# Altium footprint library BORNES_3299.PcbLib: 1 footprints
Each footprint in its own frame and in the unit in brackets; x right, y up, seen from the top. Pads: shape width x height; smd on the part's side, far side on the other; paste and mask are expansions set on the pad; w line width, h text height; cw(c..) or ccw(c..) is an arc to the next point about the centre after c.
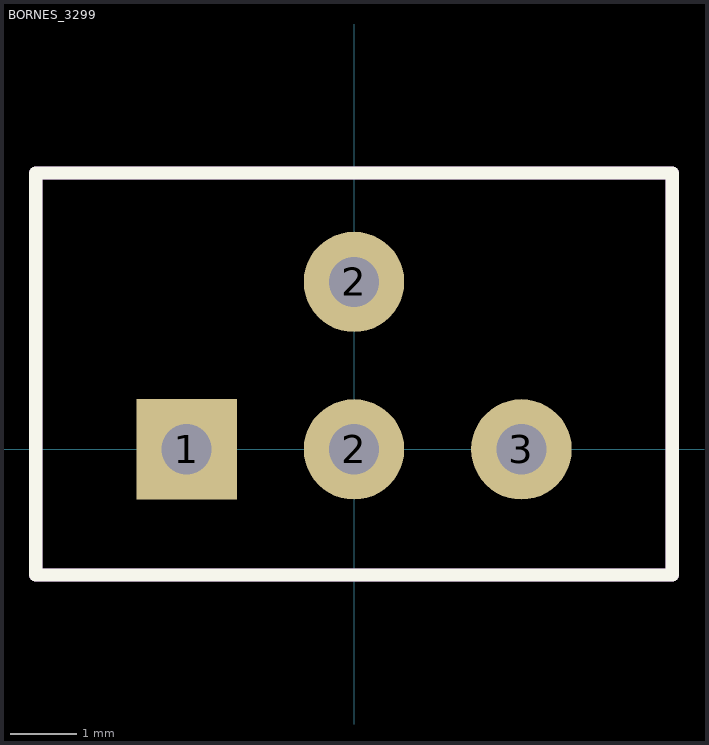
[diagram p0: the footprint, top view; thin cyan lines are the x and y axes]

## BORNES_3299 [mil] "BORNES 3299 Series Top adjust Inline and Offset Center Pin"
pads (4):
  rect 60x60 hole 30: 1(-100,0)
  round 60 hole 30: 2(0,0) 2(0,100) 3(100,0)
Top Overlay:
  lines w7.87: -190,-75 190,-75 190,165 -190,165 -190,-75
Mechanical 15:
  lines w7.87: -190,-75 -190,165 190,165 190,-75 -190,-75
  lines w10: -20,0 20,0 ; 0,-20 0,20
Mechanical 17:
  lines w7.87: -190,-75 -190,165 190,165 190,-75 -190,-75
  text ".Designator" at -155,-35 h60
Mechanical 19:
  lines w7.87: -190,-75 190,-75 190,165 -190,165 -190,-75
  text ".Comment" at -155,-35 h60
3D body: height 455, standoff -245, extent -187.5,-74.99 187.5,165